# Altium integrated library Linear Technology Power Management PMIC Multifunction.IntLib: 360 symbols (part 35 of 42)
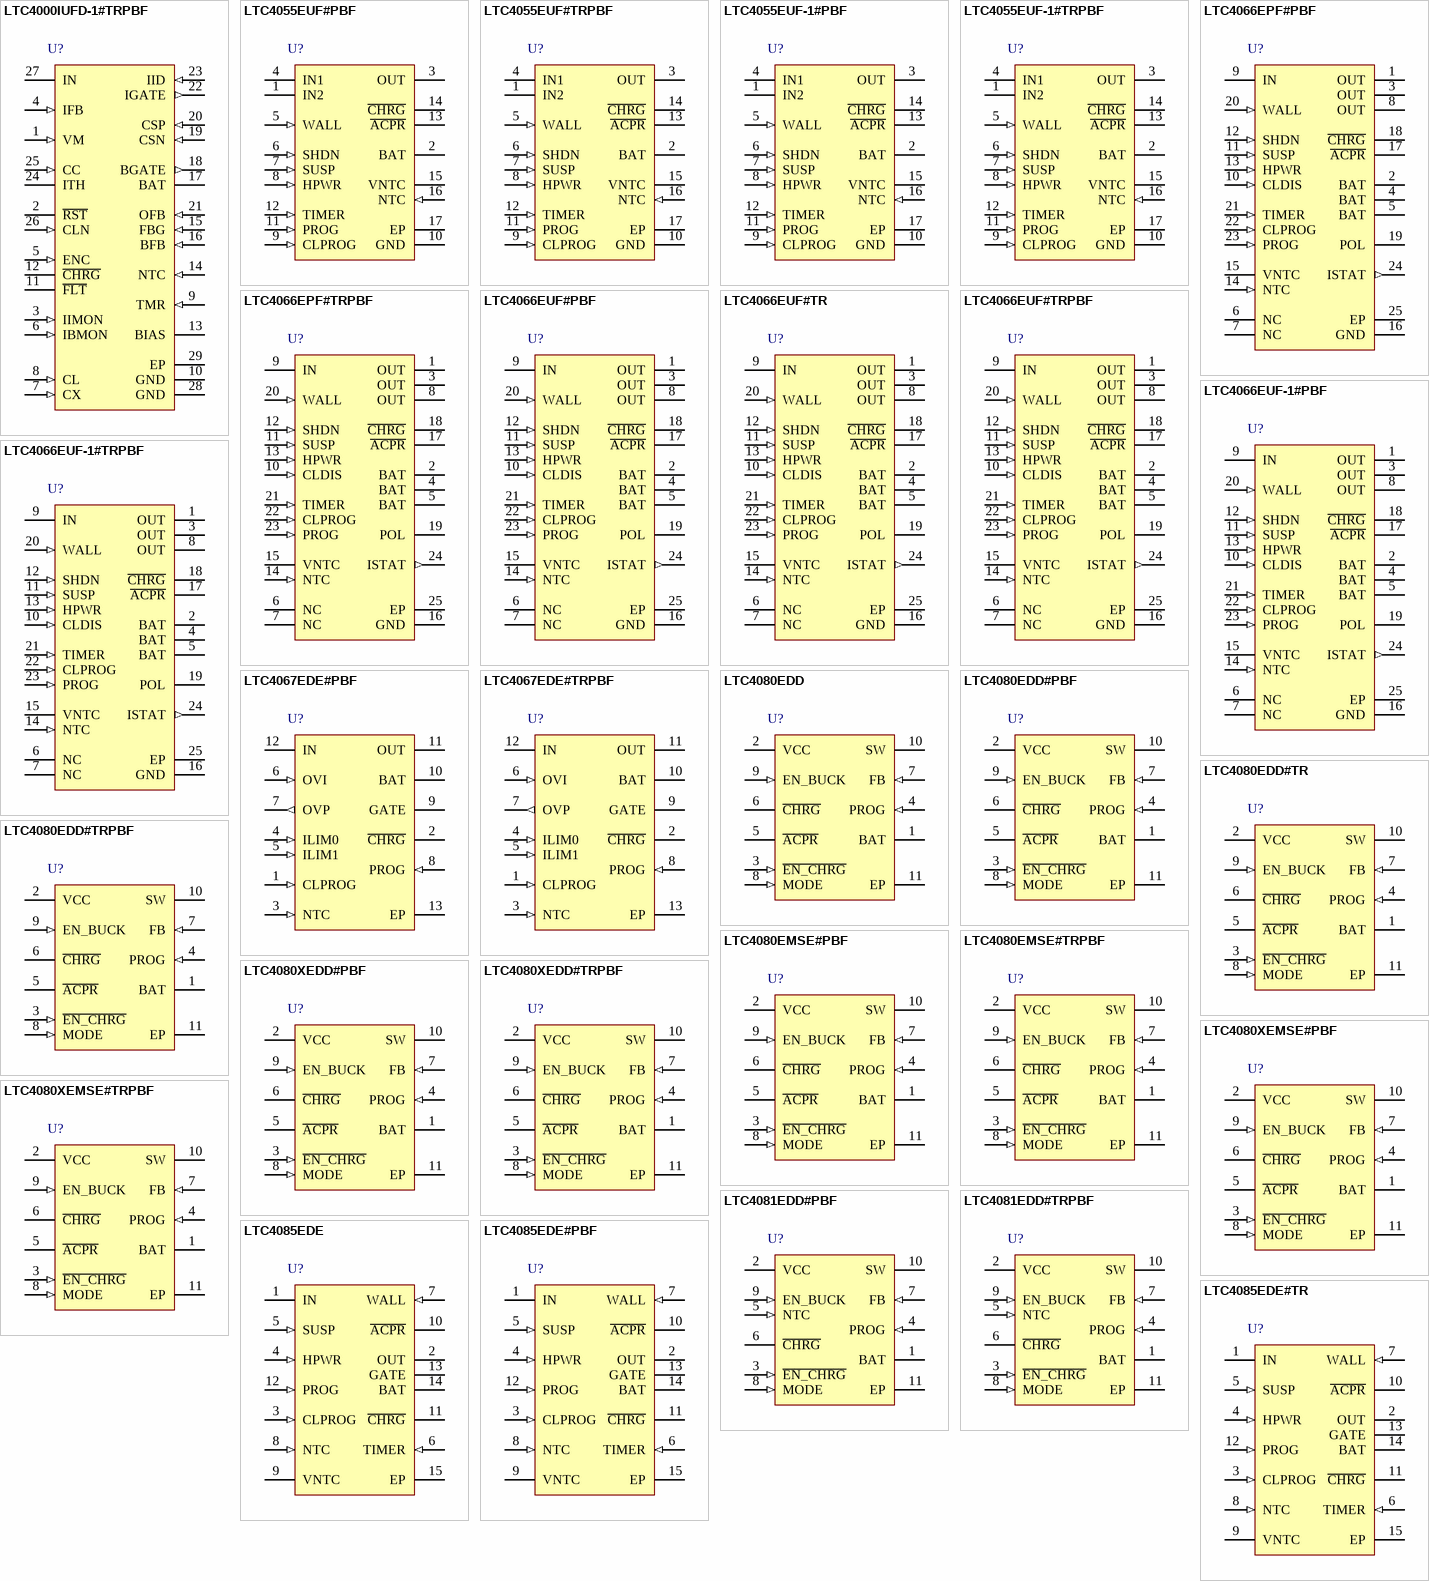
[diagram p52: symbols LTC4000IUFD-1#TRPBF to LTC4085EDE#TR]

## LTC4055EUF#PBF
designator U?
USB Power Manager with Low-Loss 200 mOhm Ideal Diode and Li-Ion Battery Charger, 4.35 to 5.5 V Vin, 16-pin QFN (UF-16), -40 to 85 degC, Pb-Free; Manufacturer: Linear Technology; PartNumber: LTC4055EUF#PBF; Number of Cells: 1; Vin Max(V): 5.5; Vin Min(V): 4.35; DatasheetVersion: Rev. B; PackageVersion: Jun-10; PackageReference: UF-16; PackageDescription: 16-Pin Plastic QFN, Body 4 x 4 mm, Pitch 0.65 mm; Supplier 1: Digi-Key; Supplier Part Number 1: LTC4055EUF#PBF-ND; Supplier 2: Newark; Supplier Part Number 2: 56M8665; Number of Outputs: 1; RoHS: TRUE; Mounting Technology: Surface Mount; Code_JEDEC: MO-220; ComponentLink1Description: Manufacturer URL; ComponentLink1URL: http://www.linear.com/; ComponentLink2Description: Datasheet; ComponentLink2URL: http://cds.linear.com/docs/en/datasheet/4055fb.pdf; ComponentLink3Description: Package Specification; ComponentLink3URL: http://cds.linear.com/docs/en/packaging/QFN_16_05-08-1692.pdf
footprint LT-UF-16_N (QFN, 16-Leads, Body 4.1x4.1mm, Pitch 0.65mm, Thermal Pad 2.15x2.15mm, IPC Medium Density)
footprint LT-UF-16_L (QFN, 16-Leads, Body 4.1x4.1mm, Pitch 0.65mm, Thermal Pad 2.15x2.15mm, IPC High Density)
footprint LT-UF-16_M (QFN, 16-Leads, Body 4.1x4.1mm, Pitch 0.65mm, Thermal Pad 2.15x2.15mm, IPC Low Density)
pins: 1 IN2 (power) "Input Supply. Connect to USB supply, VBUS. Used as main supply while connected to USB VBUS for power control to a USB device. Input current is limited to either 20% or 100% of the current programmed by the CLPROG pin as (See Datasheet)", 2 BAT (power) "Connect to a single-cell Li-Ion battery. Used as an output when charging the battery and as an input when supplying power to OUT. When the OUT pin potential drops below the BAT pin potential, an ideal diode function connects (See Datasheet)", 3 OUT (power) "Voltage Output. Used to provide controlled power to a USB device from either USB VBUS (IN1/IN2) or the battery (BAT) when the USB is not present. Can also be used as an input for battery charging when the USB is not present (See Datasheet)", 4 IN1 (power) "Input Supply. Connect to USB supply, VBUS. Used as main supply while connected to USB VBUS for power control to a USB device. Input current is limited to either 20% or 100% of the current programmed by the CLPROG pin as (See Datasheet)", 5 WALL (in) "Wall Adapter Present Input. Pulling this pin above 1V will disable charging from IN1/IN2 and disconnect the power path from IN1/IN2 to OUT. The A\C\P\R\ pin will also be pulled low to indicate that a wall adapter has been (See Datasheet)", 6 SHDN (in) "Shutdown Input. Pulling this pin greater than 1.2V will disable the entire part and place it in a low supply current mode of operation. All power paths will be disabled. A weak pull-down current is internally applied to this (See Datasheet)", 7 SUSP (in) "Suspend Mode Input. Pulling this pin above 1.2V will disable charging from IN1/IN2 and disconnect the power path from IN1/IN2 to OUT. The supply current will be reduced to comply with the USB specifi cation for Suspend mode. (See Datasheet)", 8 HPWR (in) "High Power Select. Used to control the amount of current drawn from the USB port. A voltage greater than 1.2V on the pin will set the current limit to 100% of the current programmed by the CLPROG pin and 100% of the charge (See Datasheet)", 9 CLPROG (in) "Current Limit Program. Connecting a resistor, RCLPROG to ground, programs the input to output current limit.", 10 GND (power) "Ground.", 11 PROG (in) "Charge Current Program. Connecting a resistor, RPROG, to ground programs the battery charge current.", 12 TIMER (in) "Timer Capacitor. Placing a capacitor CTIMER to GND sets the timer period.", 13 ~{ACPR} (oc) "Wall Adapter Present Output. Active low open-drain output pin. A low on this pin indicates that the wall adapter input comparator has had its input pulled above the input threshold and power is present on IN1/IN2 or OUT (i.e.(See Datasheet)", 14 ~{CHRG} (hiz) "Open-Drain Charge Status Output. When the battery is being charged, the C\H\R\G\ pin is pulled low by an internal N-channel MOSFET. When the timer runs out or the input supply or output supply is removed, the C\H\R\G\ pin is (See Datasheet)", 15 VNTC "Output Bias Voltage for NTC. A resistor from this pin to the NTC pin will set up the bias for an NTC thermistor.", 16 NTC (in) "Input to the NTC Thermistor Monitoring Circuits. Under normal operation, tie a thermistor from the NTC pin to ground and a resistor of equal value from NTC to VNTC. When the voltage on this pin is above 0.74 ?VVNTC (Cold(See Datasheet)", 17 EP (power) "Ground. The Exposed Pad must be soldered to a good thermally conductive PCB ground."

## LTC4055EUF#TRPBF
designator U?
USB Power Manager with Low-Loss 200 mOhm Ideal Diode and Li-Ion Battery Charger, 4.35 to 5.5 V Vin, 16-pin QFN (UF-16), -40 to 85 degC, Pb-Free, Tape and Reel; Manufacturer: Linear Technology; PartNumber: LTC4055EUF#TRPBF; Number of Cells: 1; Vin Max(V): 5.5; Vin Min(V): 4.35; DatasheetVersion: Rev. B; PackageVersion: Jun-10; PackageReference: UF-16; PackageDescription: 16-Pin Plastic QFN, Body 4 x 4 mm, Pitch 0.65 mm; Supplier 1: Digi-Key; Supplier Part Number 1: LTC4055EUF#TRPBF-ND; Number of Outputs: 1; Packing: Tape and Reel; RoHS: TRUE; Mounting Technology: Surface Mount; Code_JEDEC: MO-220; ComponentLink1Description: Manufacturer URL; ComponentLink1URL: http://www.linear.com/; ComponentLink2Description: Datasheet; ComponentLink2URL: http://cds.linear.com/docs/en/datasheet/4055fb.pdf; ComponentLink3Description: Package Specification; ComponentLink3URL: http://cds.linear.com/docs/en/packaging/QFN_16_05-08-1692.pdf
footprint LT-UF-16_N (QFN, 16-Leads, Body 4.1x4.1mm, Pitch 0.65mm, Thermal Pad 2.15x2.15mm, IPC Medium Density)
footprint LT-UF-16_L (QFN, 16-Leads, Body 4.1x4.1mm, Pitch 0.65mm, Thermal Pad 2.15x2.15mm, IPC High Density)
footprint LT-UF-16_M (QFN, 16-Leads, Body 4.1x4.1mm, Pitch 0.65mm, Thermal Pad 2.15x2.15mm, IPC Low Density)
pins: 1 IN2 (power) "Input Supply. Connect to USB supply, VBUS. Used as main supply while connected to USB VBUS for power control to a USB device. Input current is limited to either 20% or 100% of the current programmed by the CLPROG pin as (See Datasheet)", 2 BAT (power) "Connect to a single-cell Li-Ion battery. Used as an output when charging the battery and as an input when supplying power to OUT. When the OUT pin potential drops below the BAT pin potential, an ideal diode function connects (See Datasheet)", 3 OUT (power) "Voltage Output. Used to provide controlled power to a USB device from either USB VBUS (IN1/IN2) or the battery (BAT) when the USB is not present. Can also be used as an input for battery charging when the USB is not present (See Datasheet)", 4 IN1 (power) "Input Supply. Connect to USB supply, VBUS. Used as main supply while connected to USB VBUS for power control to a USB device. Input current is limited to either 20% or 100% of the current programmed by the CLPROG pin as (See Datasheet)", 5 WALL (in) "Wall Adapter Present Input. Pulling this pin above 1V will disable charging from IN1/IN2 and disconnect the power path from IN1/IN2 to OUT. The A\C\P\R\ pin will also be pulled low to indicate that a wall adapter has been (See Datasheet)", 6 SHDN (in) "Shutdown Input. Pulling this pin greater than 1.2V will disable the entire part and place it in a low supply current mode of operation. All power paths will be disabled. A weak pull-down current is internally applied to this (See Datasheet)", 7 SUSP (in) "Suspend Mode Input. Pulling this pin above 1.2V will disable charging from IN1/IN2 and disconnect the power path from IN1/IN2 to OUT. The supply current will be reduced to comply with the USB specifi cation for Suspend mode. (See Datasheet)", 8 HPWR (in) "High Power Select. Used to control the amount of current drawn from the USB port. A voltage greater than 1.2V on the pin will set the current limit to 100% of the current programmed by the CLPROG pin and 100% of the charge (See Datasheet)", 9 CLPROG (in) "Current Limit Program. Connecting a resistor, RCLPROG to ground, programs the input to output current limit.", 10 GND (power) "Ground.", 11 PROG (in) "Charge Current Program. Connecting a resistor, RPROG, to ground programs the battery charge current.", 12 TIMER (in) "Timer Capacitor. Placing a capacitor CTIMER to GND sets the timer period.", 13 ~{ACPR} (oc) "Wall Adapter Present Output. Active low open-drain output pin. A low on this pin indicates that the wall adapter input comparator has had its input pulled above the input threshold and power is present on IN1/IN2 or OUT (i.e.(See Datasheet)", 14 ~{CHRG} (hiz) "Open-Drain Charge Status Output. When the battery is being charged, the C\H\R\G\ pin is pulled low by an internal N-channel MOSFET. When the timer runs out or the input supply or output supply is removed, the C\H\R\G\ pin is (See Datasheet)", 15 VNTC "Output Bias Voltage for NTC. A resistor from this pin to the NTC pin will set up the bias for an NTC thermistor.", 16 NTC (in) "Input to the NTC Thermistor Monitoring Circuits. Under normal operation, tie a thermistor from the NTC pin to ground and a resistor of equal value from NTC to VNTC. When the voltage on this pin is above 0.74 ?VVNTC (Cold(See Datasheet)", 17 EP (power) "Ground. The Exposed Pad must be soldered to a good thermally conductive PCB ground."

## LTC4055EUF-1#PBF
designator U?
USB Power Manager with Low-Loss 200 mOhm Ideal Diode and Li-Ion Battery Charger, 4.35 to 5.5 V Vin, 16-pin QFN (UF-16), -40 to 85 degC, Pb-Free; Manufacturer: Linear Technology; PartNumber: LTC4055EUF-1#PBF; Number of Cells: 1; Vin Max(V): 5.5; Vin Min(V): 4.35; DatasheetVersion: Rev. B; PackageVersion: Jun-10; PackageReference: UF-16; PackageDescription: 16-Pin Plastic QFN, Body 4 x 4 mm, Pitch 0.65 mm; Supplier 1: Digi-Key; Supplier Part Number 1: LTC4055EUF-1#PBF-ND; Supplier 2: Newark; Supplier Part Number 2: 88M1928; Number of Outputs: 1; RoHS: TRUE; Mounting Technology: Surface Mount; Code_JEDEC: MO-220; ComponentLink1Description: Manufacturer URL; ComponentLink1URL: http://www.linear.com/; ComponentLink2Description: Datasheet; ComponentLink2URL: http://cds.linear.com/docs/en/datasheet/4055fb.pdf; ComponentLink3Description: Package Specification; ComponentLink3URL: http://cds.linear.com/docs/en/packaging/QFN_16_05-08-1692.pdf
footprint LT-UF-16_N (QFN, 16-Leads, Body 4.1x4.1mm, Pitch 0.65mm, Thermal Pad 2.15x2.15mm, IPC Medium Density)
footprint LT-UF-16_L (QFN, 16-Leads, Body 4.1x4.1mm, Pitch 0.65mm, Thermal Pad 2.15x2.15mm, IPC High Density)
footprint LT-UF-16_M (QFN, 16-Leads, Body 4.1x4.1mm, Pitch 0.65mm, Thermal Pad 2.15x2.15mm, IPC Low Density)
pins: 1 IN2 (power) "Input Supply. Connect to USB supply, VBUS. Used as main supply while connected to USB VBUS for power control to a USB device. Input current is limited to either 20% or 100% of the current programmed by the CLPROG pin as (See Datasheet)", 2 BAT (power) "Connect to a single-cell Li-Ion battery. Used as an output when charging the battery and as an input when supplying power to OUT. When the OUT pin potential drops below the BAT pin potential, an ideal diode function connects (See Datasheet)", 3 OUT (power) "Voltage Output. Used to provide controlled power to a USB device from either USB VBUS (IN1/IN2) or the battery (BAT) when the USB is not present. Can also be used as an input for battery charging when the USB is not present (See Datasheet)", 4 IN1 (power) "Input Supply. Connect to USB supply, VBUS. Used as main supply while connected to USB VBUS for power control to a USB device. Input current is limited to either 20% or 100% of the current programmed by the CLPROG pin as (See Datasheet)", 5 WALL (in) "Wall Adapter Present Input. Pulling this pin above 1V will disable charging from IN1/IN2 and disconnect the power path from IN1/IN2 to OUT. The A\C\P\R\ pin will also be pulled low to indicate that a wall adapter has been (See Datasheet)", 6 SHDN (in) "Shutdown Input. Pulling this pin greater than 1.2V will disable the entire part and place it in a low supply current mode of operation. All power paths will be disabled. A weak pull-down current is internally applied to this (See Datasheet)", 7 SUSP (in) "Suspend Mode Input. Pulling this pin above 1.2V will disable charging from IN1/IN2 and disconnect the power path from IN1/IN2 to OUT. The supply current will be reduced to comply with the USB specifi cation for Suspend mode. (See Datasheet)", 8 HPWR (in) "High Power Select. Used to control the amount of current drawn from the USB port. A voltage greater than 1.2V on the pin will set the current limit to 100% of the current programmed by the CLPROG pin and 100% of the charge (See Datasheet)", 9 CLPROG (in) "Current Limit Program. Connecting a resistor, RCLPROG to ground, programs the input to output current limit.", 10 GND (power) "Ground.", 11 PROG (in) "Charge Current Program. Connecting a resistor, RPROG, to ground programs the battery charge current.", 12 TIMER (in) "Timer Capacitor. Placing a capacitor CTIMER to GND sets the timer period.", 13 ~{ACPR} (oc) "Wall Adapter Present Output. Active low open-drain output pin. A low on this pin indicates that the wall adapter input comparator has had its input pulled above the input threshold and power is present on IN1/IN2 or OUT (i.e.(See Datasheet)", 14 ~{CHRG} (hiz) "Open-Drain Charge Status Output. When the battery is being charged, the C\H\R\G\ pin is pulled low by an internal N-channel MOSFET. When the timer runs out or the input supply or output supply is removed, the C\H\R\G\ pin is (See Datasheet)", 15 VNTC "Output Bias Voltage for NTC. A resistor from this pin to the NTC pin will set up the bias for an NTC thermistor.", 16 NTC (in) "Input to the NTC Thermistor Monitoring Circuits. Under normal operation, tie a thermistor from the NTC pin to ground and a resistor of equal value from NTC to VNTC. When the voltage on this pin is above 0.74 ?VVNTC (Cold(See Datasheet)", 17 EP (power) "Ground. The Exposed Pad must be soldered to a good thermally conductive PCB ground."

## LTC4055EUF-1#TRPBF
designator U?
USB Power Manager with Low-Loss 200 mOhm Ideal Diode and Li-Ion Battery Charger, 4.35 to 5.5 V Vin, 16-pin QFN (UF-16), -40 to 85 degC, Pb-Free, Tape and Reel; Manufacturer: Linear Technology; PartNumber: LTC4055EUF-1#TRPBF; Number of Cells: 1; Vin Max(V): 5.5; Vin Min(V): 4.35; DatasheetVersion: Rev. B; PackageVersion: Jun-10; PackageReference: UF-16; PackageDescription: 16-Pin Plastic QFN, Body 4 x 4 mm, Pitch 0.65 mm; Supplier 1: Digi-Key; Supplier Part Number 1: LTC4055EUF-1#TRPBF-ND; Number of Outputs: 1; Packing: Tape and Reel; RoHS: TRUE; Mounting Technology: Surface Mount; Code_JEDEC: MO-220; ComponentLink1Description: Manufacturer URL; ComponentLink1URL: http://www.linear.com/; ComponentLink2Description: Datasheet; ComponentLink2URL: http://cds.linear.com/docs/en/datasheet/4055fb.pdf; ComponentLink3Description: Package Specification; ComponentLink3URL: http://cds.linear.com/docs/en/packaging/QFN_16_05-08-1692.pdf
footprint LT-UF-16_N (QFN, 16-Leads, Body 4.1x4.1mm, Pitch 0.65mm, Thermal Pad 2.15x2.15mm, IPC Medium Density)
footprint LT-UF-16_L (QFN, 16-Leads, Body 4.1x4.1mm, Pitch 0.65mm, Thermal Pad 2.15x2.15mm, IPC High Density)
footprint LT-UF-16_M (QFN, 16-Leads, Body 4.1x4.1mm, Pitch 0.65mm, Thermal Pad 2.15x2.15mm, IPC Low Density)
pins: 1 IN2 (power) "Input Supply. Connect to USB supply, VBUS. Used as main supply while connected to USB VBUS for power control to a USB device. Input current is limited to either 20% or 100% of the current programmed by the CLPROG pin as (See Datasheet)", 2 BAT (power) "Connect to a single-cell Li-Ion battery. Used as an output when charging the battery and as an input when supplying power to OUT. When the OUT pin potential drops below the BAT pin potential, an ideal diode function connects (See Datasheet)", 3 OUT (power) "Voltage Output. Used to provide controlled power to a USB device from either USB VBUS (IN1/IN2) or the battery (BAT) when the USB is not present. Can also be used as an input for battery charging when the USB is not present (See Datasheet)", 4 IN1 (power) "Input Supply. Connect to USB supply, VBUS. Used as main supply while connected to USB VBUS for power control to a USB device. Input current is limited to either 20% or 100% of the current programmed by the CLPROG pin as (See Datasheet)", 5 WALL (in) "Wall Adapter Present Input. Pulling this pin above 1V will disable charging from IN1/IN2 and disconnect the power path from IN1/IN2 to OUT. The A\C\P\R\ pin will also be pulled low to indicate that a wall adapter has been (See Datasheet)", 6 SHDN (in) "Shutdown Input. Pulling this pin greater than 1.2V will disable the entire part and place it in a low supply current mode of operation. All power paths will be disabled. A weak pull-down current is internally applied to this (See Datasheet)", 7 SUSP (in) "Suspend Mode Input. Pulling this pin above 1.2V will disable charging from IN1/IN2 and disconnect the power path from IN1/IN2 to OUT. The supply current will be reduced to comply with the USB specifi cation for Suspend mode. (See Datasheet)", 8 HPWR (in) "High Power Select. Used to control the amount of current drawn from the USB port. A voltage greater than 1.2V on the pin will set the current limit to 100% of the current programmed by the CLPROG pin and 100% of the charge (See Datasheet)", 9 CLPROG (in) "Current Limit Program. Connecting a resistor, RCLPROG to ground, programs the input to output current limit.", 10 GND (power) "Ground.", 11 PROG (in) "Charge Current Program. Connecting a resistor, RPROG, to ground programs the battery charge current.", 12 TIMER (in) "Timer Capacitor. Placing a capacitor CTIMER to GND sets the timer period.", 13 ~{ACPR} (oc) "Wall Adapter Present Output. Active low open-drain output pin. A low on this pin indicates that the wall adapter input comparator has had its input pulled above the input threshold and power is present on IN1/IN2 or OUT (i.e.(See Datasheet)", 14 ~{CHRG} (hiz) "Open-Drain Charge Status Output. When the battery is being charged, the C\H\R\G\ pin is pulled low by an internal N-channel MOSFET. When the timer runs out or the input supply or output supply is removed, the C\H\R\G\ pin is (See Datasheet)", 15 VNTC "Output Bias Voltage for NTC. A resistor from this pin to the NTC pin will set up the bias for an NTC thermistor.", 16 NTC (in) "Input to the NTC Thermistor Monitoring Circuits. Under normal operation, tie a thermistor from the NTC pin to ground and a resistor of equal value from NTC to VNTC. When the voltage on this pin is above 0.74 ?VVNTC (Cold(See Datasheet)", 17 EP (power) "Ground. The Exposed Pad must be soldered to a good thermally conductive PCB ground."

## LTC4066EPF#PBF
designator U?
USB Power Manager with Low-Loss 50 mOhm Ideal Diode and Li-Ion Battery Charger, 4.35 to 5.5 V Vin, 24-pin QFN (PF-24), -40 to 85 degC, Pb-Free; Manufacturer: Linear Technology; PartNumber: LTC4066EPF#PBF; Number of Cells: 1; Vin Max(V): 5.5; Vin Min(V): 4.35; DatasheetVersion: Rev. C; PackageVersion: Rev. Ø, 06/2010; PackageReference: PF-24; PackageDescription: 24-Pin Plastic UTQFN, Body 4 x 4 mm, Pitch 0.5 mm; Supplier 1: Digi-Key; Supplier Part Number 1: LTC4066EPF#PBF-ND; Number of Outputs: 1; RoHS: TRUE; Mounting Technology: Surface Mount; ComponentLink1Description: Manufacturer URL; ComponentLink1URL: http://www.linear.com/; ComponentLink2Description: Datasheet; ComponentLink2URL: http://cds.linear.com/docs/en/datasheet/4066fc.pdf; ComponentLink3Description: Package Specification; ComponentLink3URL: http://cds.linear.com/docs/en/packaging/UTQFN_24_05-08-1748.pdf
footprint LT-PF-24_N (QFN, 24-Leads, Body 4.1x4.1mm, Pitch 0.5mm, Thermal Pad 2.45x2.45mm, IPC Medium Density)
footprint LT-PF-24_L (QFN, 24-Leads, Body 4.1x4.1mm, Pitch 0.5mm, Thermal Pad 2.45x2.45mm, IPC High Density)
footprint LT-PF-24_M (QFN, 24-Leads, Body 4.1x4.1mm, Pitch 0.5mm, Thermal Pad 2.45x2.45mm, IPC Low Density)
pins: 1 OUT (power) "Voltage Output. This pin is used to provide controlled power to a USB device from either USB VBUS (IN) or the battery (BAT) when the USB is not present. This pin can also be used as an input for battery charging when the USB (See Datasheet)", 2 BAT (power) "Connect to a single cell Li-Ion battery. This pin is used as an output when charging the battery, and as an input when supplying power to OUT. When the OUT pin potential drops below the BAT pin potential, an ideal diode (See Datasheet)", 3 OUT (power) "Voltage Output. This pin is used to provide controlled power to a USB device from either USB VBUS (IN) or the battery (BAT) when the USB is not present. This pin can also be used as an input for battery charging when the USB (See Datasheet)", 4 BAT (power) "Connect to a single cell Li-Ion battery. This pin is used as an output when charging the battery, and as an input when supplying power to OUT. When the OUT pin potential drops below the BAT pin potential, an ideal diode (See Datasheet)", 5 BAT (power) "Connect to a single cell Li-Ion battery. This pin is used as an output when charging the battery, and as an input when supplying power to OUT. When the OUT pin potential drops below the BAT pin potential, an ideal diode (See Datasheet)", 6 NC, 7 NC, 8 OUT (power) "Voltage Output. This pin is used to provide controlled power to a USB device from either USB VBUS (IN) or the battery (BAT) when the USB is not present. This pin can also be used as an input for battery charging when the USB (See Datasheet)", 9 IN (power) "Input Supply. Connect to USB supply, VBUS. Input current to this pin is limited to either 20% or 100% of the current programmed by the CLPROG pin as determined by the state of the HPWR pin. The input current limit can also (See Datasheet)", 10 CLDIS (in) "Current Limit Disable. This logic input is used to disable the input current limit programmed by CLPROG. A voltage greater than 1.2V on the pin will set the current limit to IIN(MAX) (typically 2.6A). A weak pulldown current (See Datasheet)", 11 SUSP (in) "Suspend Mode Input. Pulling this pin above 1.2V will disable the power path from IN to OUT. The supply current from IN will be reduced to comply with the USB specifi cation for Suspend mode. Both the ability to charge the (See Datasheet)", 12 SHDN (in) "Shutdown Input. Pulling this pin greater than 1.2V will disable the entire part and place it in a low supply current mode of operation. All power paths will be disabled. A weak pull-down current is internally applied to this (See Datasheet)", 13 HPWR (in) "High Power Select. This logic input is used to control the input current limit. A voltage greater than 1.2V on the pin will set the input current limit to 100% of the current programmed by the CLPROG pin. A voltage less than (See Datasheet)", 14 NTC (in) "Input to the NTC Thermistor Monitoring Circuits. Under normal operation, tie a thermistor from the NTC pin to ground and a resistor of equal value from NTC to VNTC. When the voltage on this pin is above 0.74 • VVNTC (Cold(See Datasheet)", 15 VNTC "Output Bias Voltage for NTC. A resistor from this pin to the NTC pin will bias the NTC thermistor.", 16 GND (power) "Ground. The Exposed Pad is ground and must be soldered to the PC board for maximum heat transfer. The Exposed Pad must be electrically connected to the GND pin.", 17 ~{ACPR} (oc) "Wall Adapter Present Output. Active low open-drain output pin. A low on this pin indicates that the wall adapter input comparator has had its input pulled above the input threshold. This feature is disabled if the part is (See Datasheet)", 18 ~{CHRG} (hiz) "Open-Drain Charge Status Output. When the battery is being charged, the C\H\R\G\ pin is pulled low by an internal N-channel MOSFET. When the timer runs out or the charge current drops below a programmable current level or (See Datasheet)", 19 POL (hiz) "Battery Current Status Polarity Pin. This open-drain output pin indicates whether the current flowing out of the ISTAT pin represents one-thousandth of the current flowing into or out of the BAT pins. The POL pin will pull (See Datasheet)", 20 WALL (in) "Wall Adapter Present Input. Pulling this pin above 1.225V will disconnect the power path from IN to OUT. The A\C\P\R\ pin will also be pulled low to indicate that a wall adapter has been detected.", 21 TIMER (in) "Timer Capacitor. Placing a capacitor, CTIMER, to GND sets the timer period.", 22 CLPROG (in) "Current Limit Program and Input Current Monitor. Connecting a resistor, RCLPROG, to ground programs the input to output current limit.", 23 PROG (in) "Charge Current Program. Connecting a resistor, RPROG, to ground programs the battery charge current.", 24 ISTAT (out) "Battery Current Status Pin. One-thousandth of the current flowing into or out of the BAT pins flows out of this pin. The POL polarity pin indicates which direction current is flowing. If the current flowing into the BAT pins (See Datasheet)", 25 EP (power) "Ground. The Exposed Pad is ground and must be soldered to the PC board for maximum heat transfer. The Exposed Pad must be electrically connected to the GND pin."

## LTC4066EPF#TRPBF
designator U?
USB Power Manager with Low-Loss 50 mOhm Ideal Diode and Li-Ion Battery Charger, 4.35 to 5.5 V Vin, 24-pin QFN (PF-24), -40 to 85 degC, Pb-Free, Tape and Reel; Manufacturer: Linear Technology; PartNumber: LTC4066EPF#TRPBF; Number of Cells: 1; Vin Max(V): 5.5; Vin Min(V): 4.35; DatasheetVersion: Rev. C; PackageVersion: Rev. Ø, 06/2010; PackageReference: PF-24; PackageDescription: 24-Pin Plastic UTQFN, Body 4 x 4 mm, Pitch 0.5 mm; Supplier 1: Digi-Key; Supplier Part Number 1: LTC4066EPF#TRPBF-ND; Number of Outputs: 1; Packing: Tape and Reel; RoHS: TRUE; Mounting Technology: Surface Mount; ComponentLink1Description: Manufacturer URL; ComponentLink1URL: http://www.linear.com/; ComponentLink2Description: Datasheet; ComponentLink2URL: http://cds.linear.com/docs/en/datasheet/4066fc.pdf; ComponentLink3Description: Package Specification; ComponentLink3URL: http://cds.linear.com/docs/en/packaging/UTQFN_24_05-08-1748.pdf
footprint LT-PF-24_N (QFN, 24-Leads, Body 4.1x4.1mm, Pitch 0.5mm, Thermal Pad 2.45x2.45mm, IPC Medium Density)
footprint LT-PF-24_L (QFN, 24-Leads, Body 4.1x4.1mm, Pitch 0.5mm, Thermal Pad 2.45x2.45mm, IPC High Density)
footprint LT-PF-24_M (QFN, 24-Leads, Body 4.1x4.1mm, Pitch 0.5mm, Thermal Pad 2.45x2.45mm, IPC Low Density)
pins: 1 OUT (power) "Voltage Output. This pin is used to provide controlled power to a USB device from either USB VBUS (IN) or the battery (BAT) when the USB is not present. This pin can also be used as an input for battery charging when the USB (See Datasheet)", 2 BAT (power) "Connect to a single cell Li-Ion battery. This pin is used as an output when charging the battery, and as an input when supplying power to OUT. When the OUT pin potential drops below the BAT pin potential, an ideal diode (See Datasheet)", 3 OUT (power) "Voltage Output. This pin is used to provide controlled power to a USB device from either USB VBUS (IN) or the battery (BAT) when the USB is not present. This pin can also be used as an input for battery charging when the USB (See Datasheet)", 4 BAT (power) "Connect to a single cell Li-Ion battery. This pin is used as an output when charging the battery, and as an input when supplying power to OUT. When the OUT pin potential drops below the BAT pin potential, an ideal diode (See Datasheet)", 5 BAT (power) "Connect to a single cell Li-Ion battery. This pin is used as an output when charging the battery, and as an input when supplying power to OUT. When the OUT pin potential drops below the BAT pin potential, an ideal diode (See Datasheet)", 6 NC, 7 NC, 8 OUT (power) "Voltage Output. This pin is used to provide controlled power to a USB device from either USB VBUS (IN) or the battery (BAT) when the USB is not present. This pin can also be used as an input for battery charging when the USB (See Datasheet)", 9 IN (power) "Input Supply. Connect to USB supply, VBUS. Input current to this pin is limited to either 20% or 100% of the current programmed by the CLPROG pin as determined by the state of the HPWR pin. The input current limit can also (See Datasheet)", 10 CLDIS (in) "Current Limit Disable. This logic input is used to disable the input current limit programmed by CLPROG. A voltage greater than 1.2V on the pin will set the current limit to IIN(MAX) (typically 2.6A). A weak pulldown current (See Datasheet)", 11 SUSP (in) "Suspend Mode Input. Pulling this pin above 1.2V will disable the power path from IN to OUT. The supply current from IN will be reduced to comply with the USB specifi cation for Suspend mode. Both the ability to charge the (See Datasheet)", 12 SHDN (in) "Shutdown Input. Pulling this pin greater than 1.2V will disable the entire part and place it in a low supply current mode of operation. All power paths will be disabled. A weak pull-down current is internally applied to this (See Datasheet)", 13 HPWR (in) "High Power Select. This logic input is used to control the input current limit. A voltage greater than 1.2V on the pin will set the input current limit to 100% of the current programmed by the CLPROG pin. A voltage less than (See Datasheet)", 14 NTC (in) "Input to the NTC Thermistor Monitoring Circuits. Under normal operation, tie a thermistor from the NTC pin to ground and a resistor of equal value from NTC to VNTC. When the voltage on this pin is above 0.74 • VVNTC (Cold(See Datasheet)", 15 VNTC "Output Bias Voltage for NTC. A resistor from this pin to the NTC pin will bias the NTC thermistor.", 16 GND (power) "Ground. The Exposed Pad is ground and must be soldered to the PC board for maximum heat transfer. The Exposed Pad must be electrically connected to the GND pin.", 17 ~{ACPR} (oc) "Wall Adapter Present Output. Active low open-drain output pin. A low on this pin indicates that the wall adapter input comparator has had its input pulled above the input threshold. This feature is disabled if the part is (See Datasheet)", 18 ~{CHRG} (hiz) "Open-Drain Charge Status Output. When the battery is being charged, the C\H\R\G\ pin is pulled low by an internal N-channel MOSFET. When the timer runs out or the charge current drops below a programmable current level or (See Datasheet)", 19 POL (hiz) "Battery Current Status Polarity Pin. This open-drain output pin indicates whether the current flowing out of the ISTAT pin represents one-thousandth of the current flowing into or out of the BAT pins. The POL pin will pull (See Datasheet)", 20 WALL (in) "Wall Adapter Present Input. Pulling this pin above 1.225V will disconnect the power path from IN to OUT. The A\C\P\R\ pin will also be pulled low to indicate that a wall adapter has been detected.", 21 TIMER (in) "Timer Capacitor. Placing a capacitor, CTIMER, to GND sets the timer period.", 22 CLPROG (in) "Current Limit Program and Input Current Monitor. Connecting a resistor, RCLPROG, to ground programs the input to output current limit.", 23 PROG (in) "Charge Current Program. Connecting a resistor, RPROG, to ground programs the battery charge current.", 24 ISTAT (out) "Battery Current Status Pin. One-thousandth of the current flowing into or out of the BAT pins flows out of this pin. The POL polarity pin indicates which direction current is flowing. If the current flowing into the BAT pins (See Datasheet)", 25 EP (power) "Ground. The Exposed Pad is ground and must be soldered to the PC board for maximum heat transfer. The Exposed Pad must be electrically connected to the GND pin."

## LTC4066EUF#PBF
designator U?
USB Power Manager with Low-Loss 50 mOhm Ideal Diode and Li-Ion Battery Charger, 4.35 to 5.5 V Vin, 24-pin QFN (UF-24) -40 to 85 degC, Pb-Free; Manufacturer: Linear Technology; PartNumber: LTC4066EUF#PBF; Number of Cells: 1; Vin Max(V): 5.5; Vin Min(V): 4.35; DatasheetVersion: Rev. C; PackageVersion: Rev. B, 02/2012; PackageReference: UF24; PackageDescription: 24-Pin Plastic QFN, Body 4 x 4 mm, Pitch 0.5 mm; Supplier 1: Digi-Key; Supplier Part Number 1: LTC4066EUF#PBF-ND; Supplier 2: Newark; Supplier Part Number 2: 56M8688; Number of Outputs: 1; RoHS: TRUE; Mounting Technology: Surface Mount; Code_JEDEC: MO-220; ComponentLink1Description: Manufacturer URL; ComponentLink1URL: http://www.linear.com/; ComponentLink2Description: Datasheet; ComponentLink2URL: http://cds.linear.com/docs/en/datasheet/4066fc.pdf; ComponentLink3Description: Package Specification; ComponentLink3URL: http://cds.linear.com/docs/en/packaging/%28UF24%29%20QFN%2005-08-1697%20Rev%20B.pdf
footprint LT-UF-24_N (QFN, 24-Leads, Body 4.1x4.1mm, Pitch 0.5mm, Thermal Pad 2.45x2.45mm, IPC Medium Density)
footprint LT-UF-24_L (QFN, 24-Leads, Body 4.1x4.1mm, Pitch 0.5mm, Thermal Pad 2.45x2.45mm, IPC High Density)
footprint LT-UF-24_M (QFN, 24-Leads, Body 4.1x4.1mm, Pitch 0.5mm, Thermal Pad 2.45x2.45mm, IPC Low Density)
pins: 1 OUT (power) "Voltage Output. This pin is used to provide controlled power to a USB device from either USB VBUS (IN) or the battery (BAT) when the USB is not present. This pin can also be used as an input for battery charging when the USB (See Datasheet)", 2 BAT (power) "Connect to a single cell Li-Ion battery. This pin is used as an output when charging the battery, and as an input when supplying power to OUT. When the OUT pin potential drops below the BAT pin potential, an ideal diode (See Datasheet)", 3 OUT (power) "Voltage Output. This pin is used to provide controlled power to a USB device from either USB VBUS (IN) or the battery (BAT) when the USB is not present. This pin can also be used as an input for battery charging when the USB (See Datasheet)", 4 BAT (power) "Connect to a single cell Li-Ion battery. This pin is used as an output when charging the battery, and as an input when supplying power to OUT. When the OUT pin potential drops below the BAT pin potential, an ideal diode (See Datasheet)", 5 BAT (power) "Connect to a single cell Li-Ion battery. This pin is used as an output when charging the battery, and as an input when supplying power to OUT. When the OUT pin potential drops below the BAT pin potential, an ideal diode (See Datasheet)", 6 NC, 7 NC, 8 OUT (power) "Voltage Output. This pin is used to provide controlled power to a USB device from either USB VBUS (IN) or the battery (BAT) when the USB is not present. This pin can also be used as an input for battery charging when the USB (See Datasheet)", 9 IN (power) "Input Supply. Connect to USB supply, VBUS. Input current to this pin is limited to either 20% or 100% of the current programmed by the CLPROG pin as determined by the state of the HPWR pin. The input current limit can also (See Datasheet)", 10 CLDIS (in) "Current Limit Disable. This logic input is used to disable the input current limit programmed by CLPROG. A voltage greater than 1.2V on the pin will set the current limit to IIN(MAX) (typically 2.6A). A weak pulldown current (See Datasheet)", 11 SUSP (in) "Suspend Mode Input. Pulling this pin above 1.2V will disable the power path from IN to OUT. The supply current from IN will be reduced to comply with the USB specifi cation for Suspend mode. Both the ability to charge the (See Datasheet)", 12 SHDN (in) "Shutdown Input. Pulling this pin greater than 1.2V will disable the entire part and place it in a low supply current mode of operation. All power paths will be disabled. A weak pull-down current is internally applied to this (See Datasheet)", 13 HPWR (in) "High Power Select. This logic input is used to control the input current limit. A voltage greater than 1.2V on the pin will set the input current limit to 100% of the current programmed by the CLPROG pin. A voltage less than (See Datasheet)", 14 NTC (in) "Input to the NTC Thermistor Monitoring Circuits. Under normal operation, tie a thermistor from the NTC pin to ground and a resistor of equal value from NTC to VNTC. When the voltage on this pin is above 0.74 • VVNTC (Cold(See Datasheet)", 15 VNTC "Output Bias Voltage for NTC. A resistor from this pin to the NTC pin will bias the NTC thermistor.", 16 GND (power) "Ground. The Exposed Pad is ground and must be soldered to the PC board for maximum heat transfer. The Exposed Pad must be electrically connected to the GND pin.", 17 ~{ACPR} (oc) "Wall Adapter Present Output. Active low open-drain output pin. A low on this pin indicates that the wall adapter input comparator has had its input pulled above the input threshold. This feature is disabled if the part is (See Datasheet)", 18 ~{CHRG} (hiz) "Open-Drain Charge Status Output. When the battery is being charged, the C\H\R\G\ pin is pulled low by an internal N-channel MOSFET. When the timer runs out or the charge current drops below a programmable current level or (See Datasheet)", 19 POL (hiz) "Battery Current Status Polarity Pin. This open-drain output pin indicates whether the current flowing out of the ISTAT pin represents one-thousandth of the current flowing into or out of the BAT pins. The POL pin will pull (See Datasheet)", 20 WALL (in) "Wall Adapter Present Input. Pulling this pin above 1.225V will disconnect the power path from IN to OUT. The A\C\P\R\ pin will also be pulled low to indicate that a wall adapter has been detected.", 21 TIMER (in) "Timer Capacitor. Placing a capacitor, CTIMER, to GND sets the timer period.", 22 CLPROG (in) "Current Limit Program and Input Current Monitor. Connecting a resistor, RCLPROG, to ground programs the input to output current limit.", 23 PROG (in) "Charge Current Program. Connecting a resistor, RPROG, to ground programs the battery charge current.", 24 ISTAT (out) "Battery Current Status Pin. One-thousandth of the current flowing into or out of the BAT pins flows out of this pin. The POL polarity pin indicates which direction current is flowing. If the current flowing into the BAT pins (See Datasheet)", 25 EP (power) "Ground. The Exposed Pad is ground and must be soldered to the PC board for maximum heat transfer. The Exposed Pad must be electrically connected to the GND pin."

## LTC4066EUF#TR
designator U?
USB Power Manager with Low-Loss 50 mOhm Ideal Diode and Li-Ion Battery Charger, 4.35 to 5.5 V Vin, 24-pin QFN (UF-24) -40 to 85 degC, Tape and Reel; Manufacturer: Linear Technology; PartNumber: LTC4066EUF#TR; Number of Cells: 1; Vin Max(V): 5.5; Vin Min(V): 4.35; DatasheetVersion: Rev. C; PackageVersion: Rev. B, 02/2012; PackageReference: UF24; PackageDescription: 24-Pin Plastic QFN, Body 4 x 4 mm, Pitch 0.5 mm; Number of Outputs: 1; Packing: Tape and Reel; RoHS: FALSE; Mounting Technology: Surface Mount; Code_JEDEC: MO-220; ComponentLink1Description: Manufacturer URL; ComponentLink1URL: http://www.linear.com/; ComponentLink2Description: Datasheet; ComponentLink2URL: http://cds.linear.com/docs/en/datasheet/4066fc.pdf; ComponentLink3Description: Package Specification; ComponentLink3URL: http://cds.linear.com/docs/en/packaging/%28UF24%29%20QFN%2005-08-1697%20Rev%20B.pdf
footprint LT-UF-24_N (QFN, 24-Leads, Body 4.1x4.1mm, Pitch 0.5mm, Thermal Pad 2.45x2.45mm, IPC Medium Density)
footprint LT-UF-24_L (QFN, 24-Leads, Body 4.1x4.1mm, Pitch 0.5mm, Thermal Pad 2.45x2.45mm, IPC High Density)
footprint LT-UF-24_M (QFN, 24-Leads, Body 4.1x4.1mm, Pitch 0.5mm, Thermal Pad 2.45x2.45mm, IPC Low Density)
pins: 1 OUT (power) "Voltage Output. This pin is used to provide controlled power to a USB device from either USB VBUS (IN) or the battery (BAT) when the USB is not present. This pin can also be used as an input for battery charging when the USB (See Datasheet)", 2 BAT (power) "Connect to a single cell Li-Ion battery. This pin is used as an output when charging the battery, and as an input when supplying power to OUT. When the OUT pin potential drops below the BAT pin potential, an ideal diode (See Datasheet)", 3 OUT (power) "Voltage Output. This pin is used to provide controlled power to a USB device from either USB VBUS (IN) or the battery (BAT) when the USB is not present. This pin can also be used as an input for battery charging when the USB (See Datasheet)", 4 BAT (power) "Connect to a single cell Li-Ion battery. This pin is used as an output when charging the battery, and as an input when supplying power to OUT. When the OUT pin potential drops below the BAT pin potential, an ideal diode (See Datasheet)", 5 BAT (power) "Connect to a single cell Li-Ion battery. This pin is used as an output when charging the battery, and as an input when supplying power to OUT. When the OUT pin potential drops below the BAT pin potential, an ideal diode (See Datasheet)", 6 NC, 7 NC, 8 OUT (power) "Voltage Output. This pin is used to provide controlled power to a USB device from either USB VBUS (IN) or the battery (BAT) when the USB is not present. This pin can also be used as an input for battery charging when the USB (See Datasheet)", 9 IN (power) "Input Supply. Connect to USB supply, VBUS. Input current to this pin is limited to either 20% or 100% of the current programmed by the CLPROG pin as determined by the state of the HPWR pin. The input current limit can also (See Datasheet)", 10 CLDIS (in) "Current Limit Disable. This logic input is used to disable the input current limit programmed by CLPROG. A voltage greater than 1.2V on the pin will set the current limit to IIN(MAX) (typically 2.6A). A weak pulldown current (See Datasheet)", 11 SUSP (in) "Suspend Mode Input. Pulling this pin above 1.2V will disable the power path from IN to OUT. The supply current from IN will be reduced to comply with the USB specifi cation for Suspend mode. Both the ability to charge the (See Datasheet)", 12 SHDN (in) "Shutdown Input. Pulling this pin greater than 1.2V will disable the entire part and place it in a low supply current mode of operation. All power paths will be disabled. A weak pull-down current is internally applied to this (See Datasheet)", 13 HPWR (in) "High Power Select. This logic input is used to control the input current limit. A voltage greater than 1.2V on the pin will set the input current limit to 100% of the current programmed by the CLPROG pin. A voltage less than (See Datasheet)", 14 NTC (in) "Input to the NTC Thermistor Monitoring Circuits. Under normal operation, tie a thermistor from the NTC pin to ground and a resistor of equal value from NTC to VNTC. When the voltage on this pin is above 0.74 • VVNTC (Cold(See Datasheet)", 15 VNTC "Output Bias Voltage for NTC. A resistor from this pin to the NTC pin will bias the NTC thermistor.", 16 GND (power) "Ground. The Exposed Pad is ground and must be soldered to the PC board for maximum heat transfer. The Exposed Pad must be electrically connected to the GND pin.", 17 ~{ACPR} (oc) "Wall Adapter Present Output. Active low open-drain output pin. A low on this pin indicates that the wall adapter input comparator has had its input pulled above the input threshold. This feature is disabled if the part is (See Datasheet)", 18 ~{CHRG} (hiz) "Open-Drain Charge Status Output. When the battery is being charged, the C\H\R\G\ pin is pulled low by an internal N-channel MOSFET. When the timer runs out or the charge current drops below a programmable current level or (See Datasheet)", 19 POL (hiz) "Battery Current Status Polarity Pin. This open-drain output pin indicates whether the current flowing out of the ISTAT pin represents one-thousandth of the current flowing into or out of the BAT pins. The POL pin will pull (See Datasheet)", 20 WALL (in) "Wall Adapter Present Input. Pulling this pin above 1.225V will disconnect the power path from IN to OUT. The A\C\P\R\ pin will also be pulled low to indicate that a wall adapter has been detected.", 21 TIMER (in) "Timer Capacitor. Placing a capacitor, CTIMER, to GND sets the timer period.", 22 CLPROG (in) "Current Limit Program and Input Current Monitor. Connecting a resistor, RCLPROG, to ground programs the input to output current limit.", 23 PROG (in) "Charge Current Program. Connecting a resistor, RPROG, to ground programs the battery charge current.", 24 ISTAT (out) "Battery Current Status Pin. One-thousandth of the current flowing into or out of the BAT pins flows out of this pin. The POL polarity pin indicates which direction current is flowing. If the current flowing into the BAT pins (See Datasheet)", 25 EP (power) "Ground. The Exposed Pad is ground and must be soldered to the PC board for maximum heat transfer. The Exposed Pad must be electrically connected to the GND pin."